# Altium schematic symbol library Vowstar_IC_General.SchLib: 140 symbols (part 2 of 2)
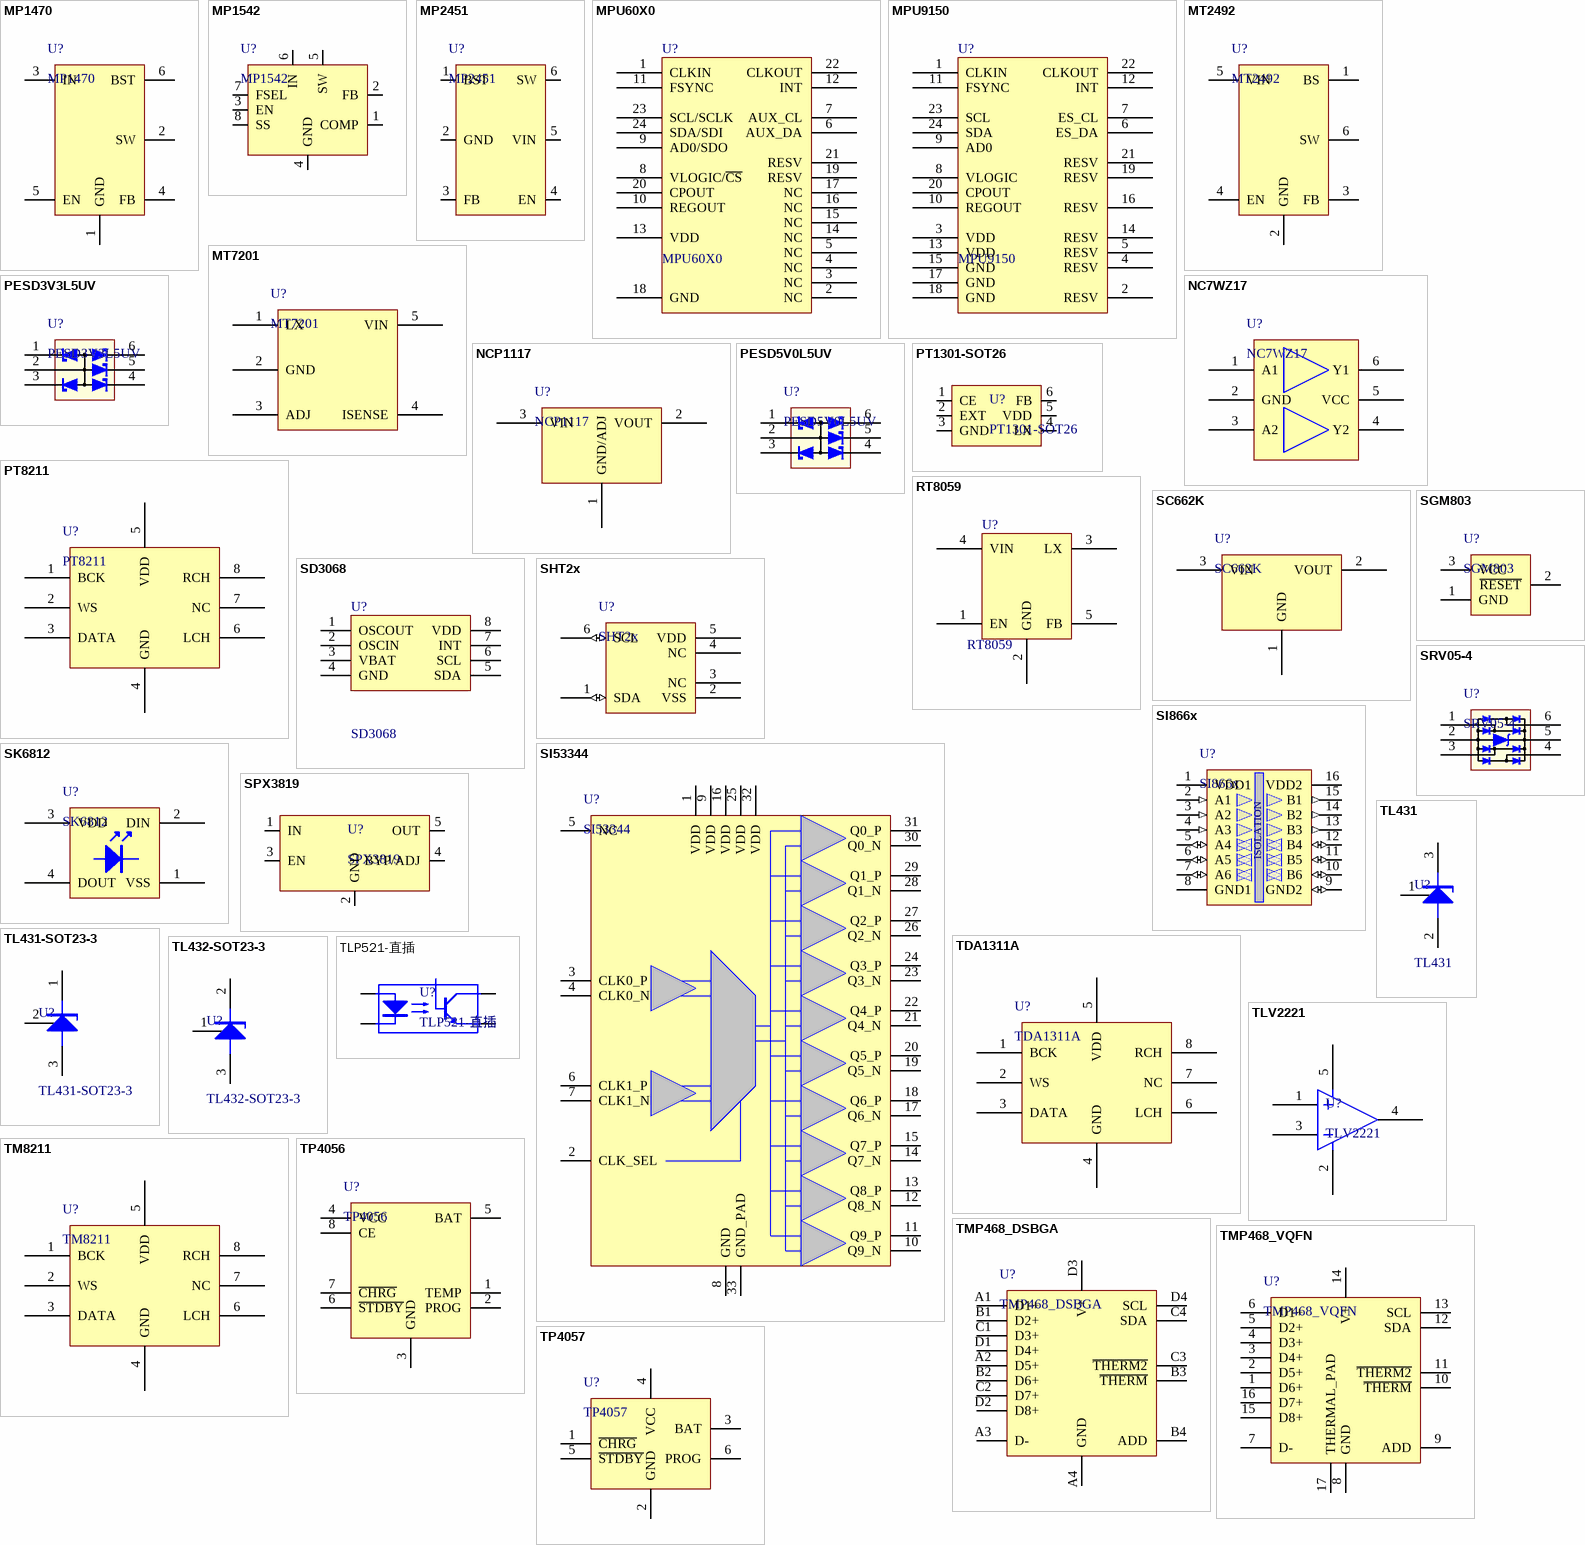
[diagram p6: symbols MP1470 to TP4057]

## TP4057
designator U?
500mA lithium-ion battery linear charger, LDO
footprint SOT23-6 (SOT-457/SC-74; 6 Leads; Body 3 x 3 mm, inc. leads (LxW max))
pins: 1 ~{CHRG}, 2 GND, 3 BAT, 4 VCC, 5 ~{STDBY}, 6 PROG

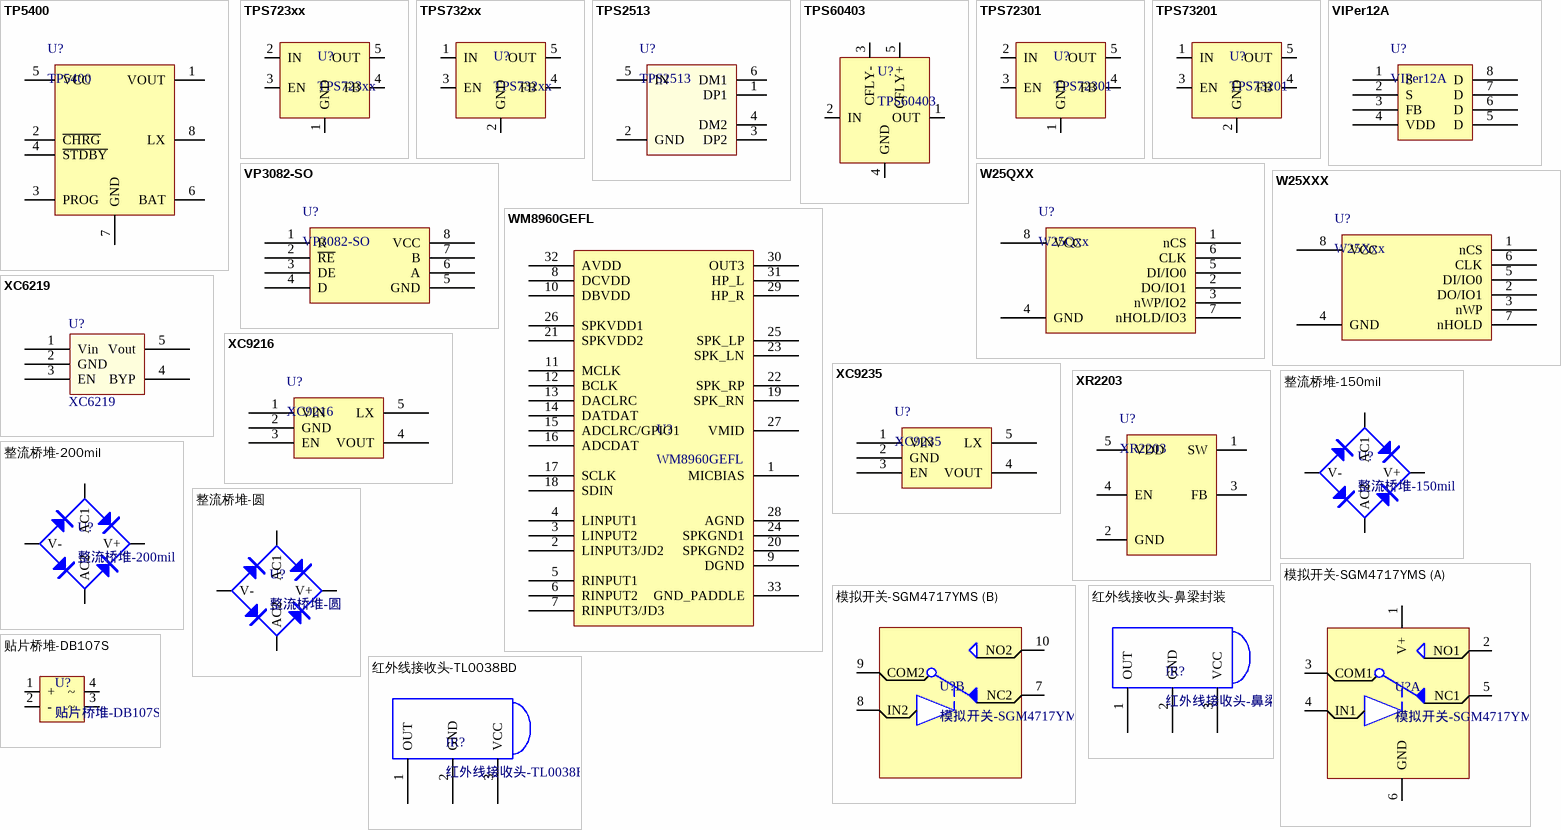
[diagram p5: symbols TP5400 to 贴片桥堆-DB107S]

## TP5400
designator U?
1A lithium-ion battery And  5V/1A Boost control IC, DC/DC
footprint TP5400 (TP5400 SOP8 With Pad)
pins: 1 VOUT, 2 ~{CHRG}, 3 PROG, 4 ~{STDBY}, 5 VCC, 6 BAT, 7 GND, 8 LX

## TPS723xx
designator U?
footprint TPS72301
pins: 1 GND, 2 IN, 3 EN, 4 FB, 5 OUT

## TPS732xx
designator U?
footprint TPS73201
pins: 1 IN, 2 GND, 3 EN, 4 FB, 5 OUT

## TPS2513
designator U?
USB Dedicated Charging Port Controller
footprint SOT23-6 (SOT-457/SC-74; 6 Leads; Body 3 x 3 mm, inc. leads (LxW max))
pins: 1 DP1, 2 GND, 3 DP2, 4 DM2, 5 IN, 6 DM1

## TPS60403
designator U?
footprint TPS60403
pins: 1 OUT, 2 IN, 3 CFLY-, 4 GND, 5 CFLY+

## TPS72301
designator U?
footprint TPS72301
pins: 1 GND, 2 IN, 3 EN, 4 FB, 5 OUT

## TPS73201
designator U?
footprint TPS73201
pins: 1 IN, 2 GND, 3 EN, 4 FB, 5 OUT

## VIPer12A
designator U?
VIPer12A   September 2002  1/15 VIPer12ADIPVIPer12AS  LOW POWER OFF LINE SMPS PRIMARY SWITCHER
footprint VIPer12A-DIP8 (VIPer12A)
pins: 1 S, 2 S, 3 FB, 4 VDD, 5 D, 6 D, 7 D, 8 D

## VP3082-SO
designator U?
footprint VP3082-485 (485)
pins: 1 R, 2 ~{RE}, 3 DE, 4 D, 5 GND, 6 A, 7 B, 8 VCC

## W25QXX
designator U?, comment W25Qxx
Serial flash memory with dual and quad SPI
footprint WSOP-8 (8-Pin Small Outline Package 1.27 mm Pitch, IPC Medium Density)
footprint DIP-8 (DIP8封装，100mil间距，300mil引脚宽度)
footprint SOP-8 (8-Pin Small Outline Integrated Circuit 1.27 mm Pitch, IPC Low Density)
footprint USON-8N
pins: 1 nCS "Chip Select Input", 2 DO/IO1 "Data Output (Data Input Output 1)", 3 nWP/IO2 "Write Protect Input ( Data Input Output 2)", 4 GND, 5 DI/IO0 "Data Input (Data Input Output 0)", 6 CLK "Serial Clock Input", 7 nHOLD/IO3 "Hold Input (Data Input Output 3)", 8 VCC

## W25XXX
designator U?, comment W25Xxx
Serial flash memory with 4kB sectors and dual I/O SPI
footprint DIP-8 (DIP8封装，100mil间距，300mil引脚宽度)
footprint SOP-8 (8-Pin Small Outline Integrated Circuit 1.27 mm Pitch, IPC Low Density)
footprint USON-8N
footprint WSOP-8 (8-Pin Small Outline Package 1.27 mm Pitch, IPC Medium Density)
pins: 1 nCS "Chip Select Input", 2 DO/IO1 "Data Output (Data Input Output 1)", 3 nWP "Write Protect Input", 4 GND, 5 DI/IO0 "Data Input (Data Input Output 0)", 6 CLK "Serial Clock Input", 7 nHOLD "Hold Input", 8 VCC

## WM8960GEFL
designator U?
Stereo CODEC with 1W Stereo Class D Speaker Drivers and  Headphone Drivers for Portable Audio Applications
footprint WM8960GEFL
pins: 1 MICBIAS, 2 LINPUT3/JD2, 3 LINPUT2, 4 LINPUT1, 5 RINPUT1, 6 RINPUT2, 7 RINPUT3/JD3, 8 DCVDD, 9 DGND, 10 DBVDD, 11 MCLK, 12 BCLK, 13 DACLRC, 14 DATDAT, 15 ADCLRC/GPIO1, 16 ADCDAT, 17 SCLK, 18 SDIN, 19 SPK_RN, 20 SPKGND2, 21 SPKVDD2, 22 SPK_RP, 23 SPK_LN, 24 SPKGND1, 25 SPK_LP, 26 SPKVDD1, 27 VMID, 28 AGND, 29 HP_R, 30 OUT3, 31 HP_L, 32 AVDD, 33 GND_PADDLE

## XC6219
designator U?
XC6219 300mA (>1.8V 240mA, <1.75V 150mA)Low-Noise CMOS LDO
footprint SOT23-5
pins: 1 Vin "Power Supply", 2 GND (power) "Ground", 3 EN "Enable Pin", 4 BYP "Bypass Signal Pin", 5 Vout (power) "Output"

## XC9216
designator U?
500mA Synchronous Step-Down DC/DC Converters
footprint SOT23-5 (SOT-23/SC-74A; 5 Leads; Body 3 x 3 mm, inc. leads (LxW max))
pins: 1 VIN "Power Input", 2 GND "Ground", 3 EN "Chip Enable Mode Switch", 4 VOUT "Output Voltage Sense", 5 LX "Switching Output"

## XC9235
designator U?
600mA Driver Tr. Built-In, Sync  hronous Step-Down DC/DC Converters
footprint SOT23-5 (SOT-23/SC-74A; 5 Leads; Body 3 x 3 mm, inc. leads (LxW max))
pins: 1 VIN "Power Input", 2 GND "Ground", 3 EN "Chip Enable Mode Switch", 4 VOUT "Output Voltage Sense", 5 LX "Switching Output"

## XR2203
designator U?
XR2203, 1.2MHZ，26V Step-up DC/DC Converter
footprint SOT23-5 (SOT-23/SC-74A; 5 Leads; Body 3 x 3 mm, inc. leads (LxW max))
pins: 1 SW "Switch pin", 2 GND "Power ground", 3 FB "Feedback pin", 4 EN "Shutdown control input., Connect this pin to logic high level to enable the device", 5 VDD "Input power supply pin"

## 整流桥堆-150mil
designator U?
footprint 整流桥堆-150mil
pins: 1 V+, 2 AC1, 3 AC2, 4 V-

## 整流桥堆-200mil
designator U?
footprint 整流桥堆-200mil
pins: 1 V+, 2 AC1, 3 AC2, 4 V-

## 整流桥堆-圆
designator U?
pins: 1 V+, 2 AC1, 3 AC2, 4 V-

## 模拟开关-SGM4717YMS
designator U?
footprint 模拟开关-SGM4717YMS
part A pins: 1 V+, 2 NO1, 3 COM1, 4 IN1, 5 NC1, 6 GND
part B pins: 7 NC2, 8 IN2, 9 COM2, 10 NO2

## 红外线接收头-TL0038BD
designator IR?
footprint 红外线接收头-TL0038BD
pins: 1 OUT, 2 GND, 3 VCC

## 红外线接收头-鼻梁封装
designator IR?
footprint 红外线接收头-鼻梁封装
pins: 1 OUT, 2 GND, 3 VCC

## 贴片桥堆-DB107S
designator U?
footprint 贴片桥堆-DB107S
pins: 1 +, 2 -, 3 ~, 4 ~